# EAGLE library part INA321E/250 (library glacsweb)
microPower, Single-Supply, CMOS Instrumentation Amplifier
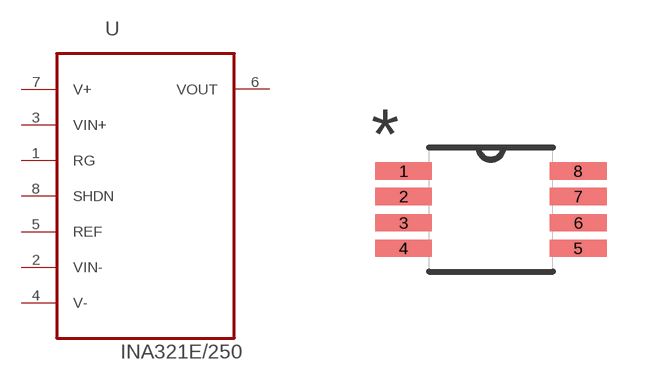
[diagram p1: symbol with the pads of SOP65P490X110-8N; footprint SOP65P490X110-8N]

Designator prefix U

## INA321E/250 (MPN: INA321E/250; OC_FARNELL: 1295982; OC_NEWARK: 74C9869; PACKAGE: MSOP-8; SUPPLIER: Texas Instruments)  [SOP65P490X110-8N]
1  RG  in
2  VIN-  in
3  VIN+  in
4  V-  pwr
5  REF  in
6  VOUT  out
7  V+  pwr
8  SHDN  pas

## Footprint SOP65P490X110-8N (pad centres in mm)
smd 1.422 x 0.432: 1 -2.184,0.965; 2 -2.184,0.33; 3 -2.184,-0.33; 4 -2.184,-0.965; 5 2.184,-0.965; 6 2.184,-0.33; 7 2.184,0.33; 8 2.184,0.965